# Altium integrated library Linear Technology Power Management PMIC Multifunction.IntLib: 360 symbols (part 23 of 42)
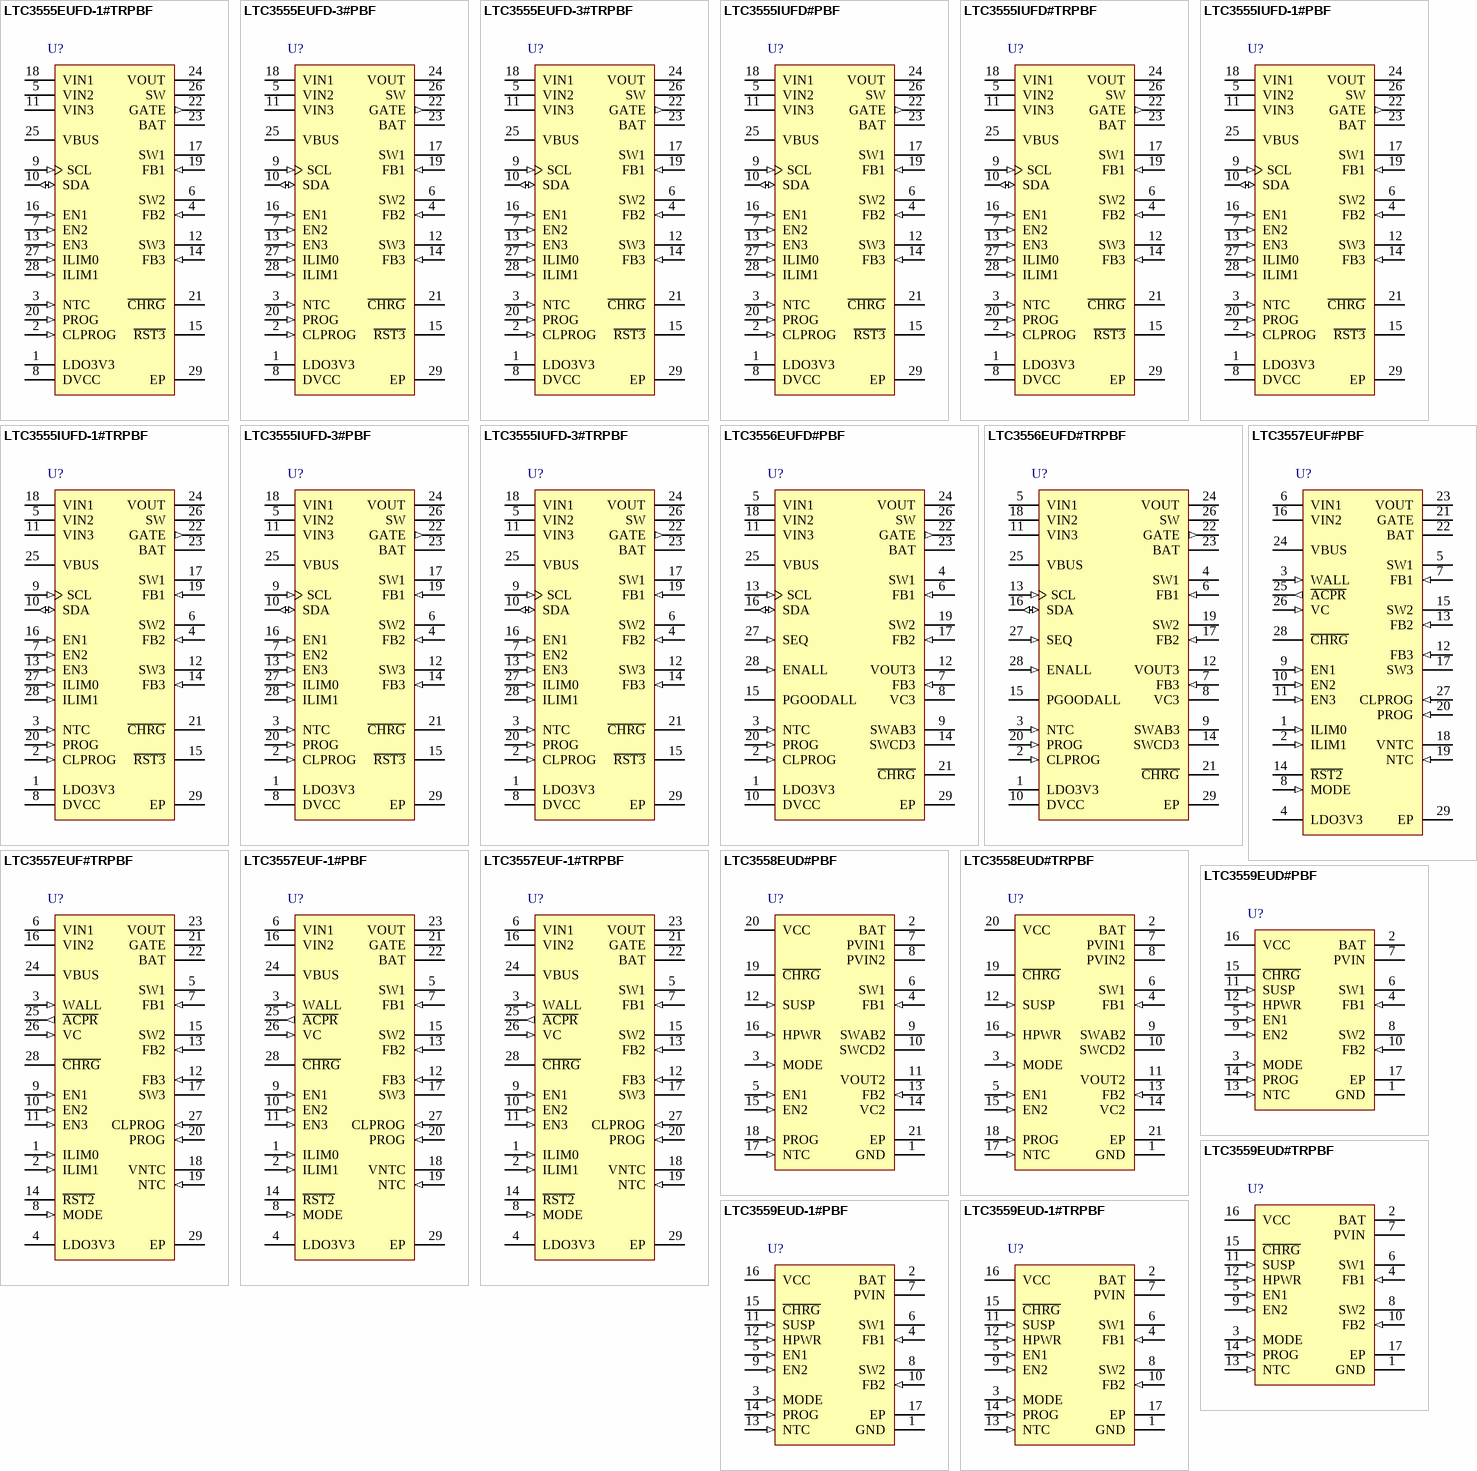
[diagram p40: symbols LTC3555EUFD-1#TRPBF to LTC3559EUD-1#TRPBF]

## LTC3557EUF#TRPBF
designator U?
USB Power Manager with Li-Ion Charger and Three Step Down Regulator, 2.7 to 5.5 V Vin, 28-pin QFN (UF-28), -40 to 85 degC, Pb-Free, Tape and Reel; Manufacturer: Linear Technology; PartNumber: LTC3557EUF#TRPBF; Number of Cells: 1; Number of Outputs: 4; Vin Max(V): 5.5; Vin Min(V): 2.7; DatasheetVersion: Rev. C; PackageVersion: Rev. A, 06/2010; PackageReference: UF-28; PackageDescription: 28-Pin Plastic QFN, Body 4 x 4 mm, Pitch 0.4 mm; Supplier 1: Digi-Key; Supplier Part Number 1: LTC3557EUF#TRPBF-ND; Packing: Tape and Reel; RoHS: TRUE; Mounting Technology: Surface Mount; ComponentLink1Description: Manufacturer URL; ComponentLink1URL: http://www.linear.com/; ComponentLink2Description: Datasheet; ComponentLink2URL: http://cds.linear.com/docs/en/datasheet/35571fc.pdf; ComponentLink3Description: Package Specification; ComponentLink3URL: http://cds.linear.com/docs/en/packaging/QFN_28_05-08-1721.pdf
footprint LT-UF-28_N (QFN, 28-Leads, Body 4.1x4.1mm, Pitch 0.4mm, Thermal Pad 2.64x2.64mm, IPC Medium Density)
footprint LT-UF-28_L (QFN, 28-Leads, Body 4.1x4.1mm, Pitch 0.4mm, Thermal Pad 2.64x2.64mm, IPC High Density)
footprint LT-UF-28_M (QFN, 28-Leads, Body 4.1x4.1mm, Pitch 0.4mm, Thermal Pad 2.64x2.64mm, IPC Low Density)
pins: 1 ILIM0 (in) "Input Current Control Pins. ILIM0 and ILIM1 control the input current limit. See Table 1. Both pins are pulled low by a weak current sink.", 2 ILIM1 (in) "Input Current Control Pins. ILIM0 and ILIM1 control the input current limit. See Table 1. Both pins are pulled low by a weak current sink.", 3 WALL (in) "Wall Adapter Present Input. Pulling this pin above 4.3V will disconnect the power path from VBUS to VOUT. The A\C\P\R\ pin will also be pulled low to indicate that a wall adapter has been detected.", 4 LDO3V3 (power) "Always On 3.3V LDO Output. The LDO3V3 pin provides a regulated, always-on 3.3V supply voltage. This pin gets its power from VOUT. It may be used for light loads such as a real-time clock or housekeeping microprocessor. A 1uF (See Datasheet)", 5 SW1 (power) "Power Transmission (Switch) Pin for Step-Down Switching Regulator 1.", 6 VIN1 (power) "Power Input for Step-Down Switching Regulator 1. This pin will generally be connected to VOUT.", 7 FB1 (in) "Feedback Input for Step-Down Switching Regulator 1. This pin servos to a fixed voltage of 0.8V when the control loop is complete.", 8 MODE (in) "Low Power Mode Enable. When this pin is pulled high, the three step-down switching regulators are set to low power Burst Mode operation.", 9 EN1 (in) "Logic Input Enables Step-Down Switching Regulator 1.", 10 EN2 (in) "Logic Input Enables Step-Down Switching Regulator 2.", 11 EN3 (in) "Logic Input Enables Step-Down Switching Regulator 3.", 12 FB3 (in) "Feedback Input for Step-Down Switching Regulator 3. This pin servos to a fixed voltage of 0.8V when the control loop is complete.", 13 FB2 (in) "Feedback Input for Step-Down Switching Regulator 2. This pin servos to a fixed voltage of 0.8V when the control loop is complete.", 14 ~{RST2} (oc) "This is an open-drain output which indicates that step-down switching regulator 2 has settled to its final value. It can be used as a power on reset for the primary microprocessor or to enable the other buck regulators for (See Datasheet)", 15 SW2 (power) "Power Transmission (Switch) Pin for Step-Down Switching Regulator 2.", 16 VIN2 (power) "Power Input for Step-Down Switching Regulators 2 and 3. This pin will generally be connected to VOUT.", 17 SW3 (power) "Power Transmission (Switch) Pin for Step-Down Switching Regulator 3.", 18 VNTC "Output Bias Voltage for NTC. A resistor from this pin to the NTC pin will bias the NTC thermistor.", 19 NTC (in) "The NTC pin connects to a battery’s thermistor to determine if the battery is too hot or too cold to charge. If the battery’s temperature is out of range, charging is paused until it drops back into range. A low dr(See Datasheet)", 20 PROG (in) "Charge Current Program and Charge Current Monitor Pin. Connecting a resistor from PROG to ground programs the charge current: ICHG(A)= 1000V RPROG If suffi cient input power is available in constant current mode, this pin (See Datasheet)", 21 GATE (hiz) "Ideal Diode Gate Connection. This pin controls the gate of an optional external P-channel MOSFET transistor used to supplement the internal ideal diode. The source of the P-channel MOSFET should be connected to VOUT and the (See Datasheet)", 22 BAT (power) "Single Cell Li-Ion Battery Pin. Depending on available power and load, a Li-Ion battery on BAT will either deliver system power to VOUT through the ideal diode or be charged from the battery charger.", 23 VOUT (power) "Output Voltage of the PowerPath Controller and Input Voltage of the Battery Charger. The majority of the portable product should be powered from VOUT. The LTC3557/LTC3557-1 will partition the available power between the (See Datasheet)", 24 VBUS (power) "USB Input Voltage. VBUS will usually be connected to the USB port of a computer or a DC output wall adapter. VBUS should be bypassed with a low impedance multilayer ceramic capacitor.", 25 ~{ACPR} (out) "Wall Adapter Present Output (Active Low). A low on this pin indicates that the wall adapter input comparator has had its input pulled above its input threshold (typically 4.3V). This pin can be used to drive the gate of an (See Datasheet)", 26 VC (in) "High Voltage Buck Regulator Control Pin. This pin can be used to drive the VC pin of an approved external high voltage buck switching regulator. An external P-channel MOSFET is required to provide power to VOUT with its gate (See Datasheet)", 27 CLPROG (in) "Input Current Program and Input Current Monitor Pin. A resistor from CLPROG to ground determines the upper limit of the current drawn from the VBUS pin (i.e., the input current limit). A precise fraction of the input (See Datasheet)", 28 ~{CHRG} (hiz) "Open-Drain Charge Status Output. The C\H\R\G\ pin indicates the status of the battery charger. Four possible states are represented by C\H\R\G\: charging, not charging (i.e., float charge current less than 1/10th programmed (See Datasheet)", 29 EP (power) "Ground. The exposed package pad is ground and must be soldered to the PC board for proper functionality and for maximum heat transfer."

## LTC3557EUF-1#PBF
designator U?
USB Power Manager with Li-Ion Charger and Three Step Down Regulator, 2.7 to 5.5 V Vin, 28-pin QFN (UF-28), -40 to 85 degC, Pb-Free; Manufacturer: Linear Technology; PartNumber: LTC3557EUF-1#PBF; Number of Cells: 1; Number of Outputs: 4; Vin Max(V): 5.5; Vin Min(V): 2.7; DatasheetVersion: Rev. C; PackageVersion: Rev. A, 06/2010; PackageReference: UF-28; PackageDescription: 28-Pin Plastic QFN, Body 4 x 4 mm, Pitch 0.4 mm; Supplier 1: Digi-Key; Supplier Part Number 1: LTC3557EUF-1#PBF-ND; RoHS: TRUE; Mounting Technology: Surface Mount; ComponentLink1Description: Manufacturer URL; ComponentLink1URL: http://www.linear.com/; ComponentLink2Description: Datasheet; ComponentLink2URL: http://cds.linear.com/docs/en/datasheet/35571fc.pdf; ComponentLink3Description: Package Specification; ComponentLink3URL: http://cds.linear.com/docs/en/packaging/QFN_28_05-08-1721.pdf
footprint LT-UF-28_N (QFN, 28-Leads, Body 4.1x4.1mm, Pitch 0.4mm, Thermal Pad 2.64x2.64mm, IPC Medium Density)
footprint LT-UF-28_L (QFN, 28-Leads, Body 4.1x4.1mm, Pitch 0.4mm, Thermal Pad 2.64x2.64mm, IPC High Density)
footprint LT-UF-28_M (QFN, 28-Leads, Body 4.1x4.1mm, Pitch 0.4mm, Thermal Pad 2.64x2.64mm, IPC Low Density)
pins: 1 ILIM0 (in) "Input Current Control Pins. ILIM0 and ILIM1 control the input current limit. See Table 1. Both pins are pulled low by a weak current sink.", 2 ILIM1 (in) "Input Current Control Pins. ILIM0 and ILIM1 control the input current limit. See Table 1. Both pins are pulled low by a weak current sink.", 3 WALL (in) "Wall Adapter Present Input. Pulling this pin above 4.3V will disconnect the power path from VBUS to VOUT. The A\C\P\R\ pin will also be pulled low to indicate that a wall adapter has been detected.", 4 LDO3V3 (power) "Always On 3.3V LDO Output. The LDO3V3 pin provides a regulated, always-on 3.3V supply voltage. This pin gets its power from VOUT. It may be used for light loads such as a real-time clock or housekeeping microprocessor. A 1uF (See Datasheet)", 5 SW1 (power) "Power Transmission (Switch) Pin for Step-Down Switching Regulator 1.", 6 VIN1 (power) "Power Input for Step-Down Switching Regulator 1. This pin will generally be connected to VOUT.", 7 FB1 (in) "Feedback Input for Step-Down Switching Regulator 1. This pin servos to a fixed voltage of 0.8V when the control loop is complete.", 8 MODE (in) "Low Power Mode Enable. When this pin is pulled high, the three step-down switching regulators are set to low power Burst Mode operation.", 9 EN1 (in) "Logic Input Enables Step-Down Switching Regulator 1.", 10 EN2 (in) "Logic Input Enables Step-Down Switching Regulator 2.", 11 EN3 (in) "Logic Input Enables Step-Down Switching Regulator 3.", 12 FB3 (in) "Feedback Input for Step-Down Switching Regulator 3. This pin servos to a fixed voltage of 0.8V when the control loop is complete.", 13 FB2 (in) "Feedback Input for Step-Down Switching Regulator 2. This pin servos to a fixed voltage of 0.8V when the control loop is complete.", 14 ~{RST2} (oc) "This is an open-drain output which indicates that step-down switching regulator 2 has settled to its final value. It can be used as a power on reset for the primary microprocessor or to enable the other buck regulators for (See Datasheet)", 15 SW2 (power) "Power Transmission (Switch) Pin for Step-Down Switching Regulator 2.", 16 VIN2 (power) "Power Input for Step-Down Switching Regulators 2 and 3. This pin will generally be connected to VOUT.", 17 SW3 (power) "Power Transmission (Switch) Pin for Step-Down Switching Regulator 3.", 18 VNTC "Output Bias Voltage for NTC. A resistor from this pin to the NTC pin will bias the NTC thermistor.", 19 NTC (in) "The NTC pin connects to a battery’s thermistor to determine if the battery is too hot or too cold to charge. If the battery’s temperature is out of range, charging is paused until it drops back into range. A low dr(See Datasheet)", 20 PROG (in) "Charge Current Program and Charge Current Monitor Pin. Connecting a resistor from PROG to ground programs the charge current: ICHG(A)= 1000V RPROG If suffi cient input power is available in constant current mode, this pin (See Datasheet)", 21 GATE (hiz) "Ideal Diode Gate Connection. This pin controls the gate of an optional external P-channel MOSFET transistor used to supplement the internal ideal diode. The source of the P-channel MOSFET should be connected to VOUT and the (See Datasheet)", 22 BAT (power) "Single Cell Li-Ion Battery Pin. Depending on available power and load, a Li-Ion battery on BAT will either deliver system power to VOUT through the ideal diode or be charged from the battery charger.", 23 VOUT (power) "Output Voltage of the PowerPath Controller and Input Voltage of the Battery Charger. The majority of the portable product should be powered from VOUT. The LTC3557/LTC3557-1 will partition the available power between the (See Datasheet)", 24 VBUS (power) "USB Input Voltage. VBUS will usually be connected to the USB port of a computer or a DC output wall adapter. VBUS should be bypassed with a low impedance multilayer ceramic capacitor.", 25 ~{ACPR} (out) "Wall Adapter Present Output (Active Low). A low on this pin indicates that the wall adapter input comparator has had its input pulled above its input threshold (typically 4.3V). This pin can be used to drive the gate of an (See Datasheet)", 26 VC (in) "High Voltage Buck Regulator Control Pin. This pin can be used to drive the VC pin of an approved external high voltage buck switching regulator. An external P-channel MOSFET is required to provide power to VOUT with its gate (See Datasheet)", 27 CLPROG (in) "Input Current Program and Input Current Monitor Pin. A resistor from CLPROG to ground determines the upper limit of the current drawn from the VBUS pin (i.e., the input current limit). A precise fraction of the input (See Datasheet)", 28 ~{CHRG} (hiz) "Open-Drain Charge Status Output. The C\H\R\G\ pin indicates the status of the battery charger. Four possible states are represented by C\H\R\G\: charging, not charging (i.e., float charge current less than 1/10th programmed (See Datasheet)", 29 EP (power) "Ground. The exposed package pad is ground and must be soldered to the PC board for proper functionality and for maximum heat transfer."

## LTC3557EUF-1#TRPBF
designator U?
USB Power Manager with Li-Ion Charger and Three Step Down Regulator, 2.7 to 5.5 V Vin, 28-pin QFN (UF-28), -40 to 85 degC, Pb-Free, Tape and Reel; Manufacturer: Linear Technology; PartNumber: LTC3557EUF-1#TRPBF; Number of Cells: 1; Number of Outputs: 4; Vin Max(V): 5.5; Vin Min(V): 2.7; DatasheetVersion: Rev. C; PackageVersion: Rev. A, 06/2010; PackageReference: UF-28; PackageDescription: 28-Pin Plastic QFN, Body 4 x 4 mm, Pitch 0.4 mm; Supplier 1: Digi-Key; Supplier Part Number 1: LTC3557EUF-1#TRPBF-ND; Packing: Tape and Reel; RoHS: TRUE; Mounting Technology: Surface Mount; ComponentLink1Description: Manufacturer URL; ComponentLink1URL: http://www.linear.com/; ComponentLink2Description: Datasheet; ComponentLink2URL: http://cds.linear.com/docs/en/datasheet/35571fc.pdf; ComponentLink3Description: Package Specification; ComponentLink3URL: http://cds.linear.com/docs/en/packaging/QFN_28_05-08-1721.pdf
footprint LT-UF-28_N (QFN, 28-Leads, Body 4.1x4.1mm, Pitch 0.4mm, Thermal Pad 2.64x2.64mm, IPC Medium Density)
footprint LT-UF-28_L (QFN, 28-Leads, Body 4.1x4.1mm, Pitch 0.4mm, Thermal Pad 2.64x2.64mm, IPC High Density)
footprint LT-UF-28_M (QFN, 28-Leads, Body 4.1x4.1mm, Pitch 0.4mm, Thermal Pad 2.64x2.64mm, IPC Low Density)
pins: 1 ILIM0 (in) "Input Current Control Pins. ILIM0 and ILIM1 control the input current limit. See Table 1. Both pins are pulled low by a weak current sink.", 2 ILIM1 (in) "Input Current Control Pins. ILIM0 and ILIM1 control the input current limit. See Table 1. Both pins are pulled low by a weak current sink.", 3 WALL (in) "Wall Adapter Present Input. Pulling this pin above 4.3V will disconnect the power path from VBUS to VOUT. The A\C\P\R\ pin will also be pulled low to indicate that a wall adapter has been detected.", 4 LDO3V3 (power) "Always On 3.3V LDO Output. The LDO3V3 pin provides a regulated, always-on 3.3V supply voltage. This pin gets its power from VOUT. It may be used for light loads such as a real-time clock or housekeeping microprocessor. A 1uF (See Datasheet)", 5 SW1 (power) "Power Transmission (Switch) Pin for Step-Down Switching Regulator 1.", 6 VIN1 (power) "Power Input for Step-Down Switching Regulator 1. This pin will generally be connected to VOUT.", 7 FB1 (in) "Feedback Input for Step-Down Switching Regulator 1. This pin servos to a fixed voltage of 0.8V when the control loop is complete.", 8 MODE (in) "Low Power Mode Enable. When this pin is pulled high, the three step-down switching regulators are set to low power Burst Mode operation.", 9 EN1 (in) "Logic Input Enables Step-Down Switching Regulator 1.", 10 EN2 (in) "Logic Input Enables Step-Down Switching Regulator 2.", 11 EN3 (in) "Logic Input Enables Step-Down Switching Regulator 3.", 12 FB3 (in) "Feedback Input for Step-Down Switching Regulator 3. This pin servos to a fixed voltage of 0.8V when the control loop is complete.", 13 FB2 (in) "Feedback Input for Step-Down Switching Regulator 2. This pin servos to a fixed voltage of 0.8V when the control loop is complete.", 14 ~{RST2} (oc) "This is an open-drain output which indicates that step-down switching regulator 2 has settled to its final value. It can be used as a power on reset for the primary microprocessor or to enable the other buck regulators for (See Datasheet)", 15 SW2 (power) "Power Transmission (Switch) Pin for Step-Down Switching Regulator 2.", 16 VIN2 (power) "Power Input for Step-Down Switching Regulators 2 and 3. This pin will generally be connected to VOUT.", 17 SW3 (power) "Power Transmission (Switch) Pin for Step-Down Switching Regulator 3.", 18 VNTC "Output Bias Voltage for NTC. A resistor from this pin to the NTC pin will bias the NTC thermistor.", 19 NTC (in) "The NTC pin connects to a battery’s thermistor to determine if the battery is too hot or too cold to charge. If the battery’s temperature is out of range, charging is paused until it drops back into range. A low dr(See Datasheet)", 20 PROG (in) "Charge Current Program and Charge Current Monitor Pin. Connecting a resistor from PROG to ground programs the charge current: ICHG(A)= 1000V RPROG If suffi cient input power is available in constant current mode, this pin (See Datasheet)", 21 GATE (hiz) "Ideal Diode Gate Connection. This pin controls the gate of an optional external P-channel MOSFET transistor used to supplement the internal ideal diode. The source of the P-channel MOSFET should be connected to VOUT and the (See Datasheet)", 22 BAT (power) "Single Cell Li-Ion Battery Pin. Depending on available power and load, a Li-Ion battery on BAT will either deliver system power to VOUT through the ideal diode or be charged from the battery charger.", 23 VOUT (power) "Output Voltage of the PowerPath Controller and Input Voltage of the Battery Charger. The majority of the portable product should be powered from VOUT. The LTC3557/LTC3557-1 will partition the available power between the (See Datasheet)", 24 VBUS (power) "USB Input Voltage. VBUS will usually be connected to the USB port of a computer or a DC output wall adapter. VBUS should be bypassed with a low impedance multilayer ceramic capacitor.", 25 ~{ACPR} (out) "Wall Adapter Present Output (Active Low). A low on this pin indicates that the wall adapter input comparator has had its input pulled above its input threshold (typically 4.3V). This pin can be used to drive the gate of an (See Datasheet)", 26 VC (in) "High Voltage Buck Regulator Control Pin. This pin can be used to drive the VC pin of an approved external high voltage buck switching regulator. An external P-channel MOSFET is required to provide power to VOUT with its gate (See Datasheet)", 27 CLPROG (in) "Input Current Program and Input Current Monitor Pin. A resistor from CLPROG to ground determines the upper limit of the current drawn from the VBUS pin (i.e., the input current limit). A precise fraction of the input (See Datasheet)", 28 ~{CHRG} (hiz) "Open-Drain Charge Status Output. The C\H\R\G\ pin indicates the status of the battery charger. Four possible states are represented by C\H\R\G\: charging, not charging (i.e., float charge current less than 1/10th programmed (See Datasheet)", 29 EP (power) "Ground. The exposed package pad is ground and must be soldered to the PC board for proper functionality and for maximum heat transfer."

## LTC3558EUD#PBF
designator U?
Linear USB Battery Charger with Buck and Buck-Boost Regulator, 4.3 to 5.5 V Vin, 20-pin QFN (UD-20), -40 to 85 degC, Pb-Free; Manufacturer: Linear Technology; PartNumber: LTC3558EUD#PBF; Number of Cells: 1; Number of Outputs: 2; Vin Max(V): 5.5; Vin Min(V): 4.3; PackageVersion: Rev. A, 06/2010; PackageReference: UD-20; PackageDescription: 20-Pin Plastic QFN, Body 3 x 3 mm, Pitch 0.4 mm; Supplier 1: Digi-Key; Supplier Part Number 1: LTC3558EUD#PBF-ND; Supplier 2: Newark; Supplier Part Number 2: 15N8258; RoHS: TRUE; Mounting Technology: Surface Mount; ComponentLink1Description: Manufacturer URL; ComponentLink1URL: http://www.linear.com/; ComponentLink2Description: Datasheet; ComponentLink2URL: http://cds.linear.com/docs/en/datasheet/3558.pdf; ComponentLink3Description: Package Specification; ComponentLink3URL: http://cds.linear.com/docs/en/packaging/QFN_20_05-08-1720.pdf
footprint LT-UD-20_N (QFN, 20-Leads, Body 3.1x3.1mm, Pitch 0.4mm, Thermal Pad 1.65x1.65mm, IPC Medium Density)
footprint LT-UD-20_L (QFN, 20-Leads, Body 3.1x3.1mm, Pitch 0.4mm, Thermal Pad 1.65x1.65mm, IPC High Density)
footprint LT-UD-20_M (QFN, 20-Leads, Body 3.1x3.1mm, Pitch 0.4mm, Thermal Pad 1.65x1.65mm, IPC Low Density)
pins: 1 GND (power) "Ground. Connect to Exposed Pad (Pin 21).", 2 BAT (power) "Charge Current Output. Provides charge current to the battery and regulates final float voltage to 4.2 V.", 3 MODE (in) "MODE Pin for Switching Regulators. When held high, both regulators operate in Burst Mode Operation. When held low, the buck regulator operates in pulse skip mode and the buck-boost regulator operates in PWM mode. This pin is (See Datasheet)", 4 FB1 (in) "Buck Regulator Feedback Voltage Pin. Receives feedback by a resistor divider connected across the output.", 5 EN1 (in) "Enable Input Pin for the Buck Regulator. This pin is a high impedance input; do not float. Active high.", 6 SW1 (power) "Buck Regulator Switching Node. External inductor connects to this node.", 7 PVIN1 (power) "Input Supply Pin for Buck Regulator. Connect to BAT and PVIN2. A single 10 uF input decoupling capacitor to GND is required.", 8 PVIN2 (power) "Input Supply Pin for Buck-Boost Regulator. Connect to BAT and PVIN1. A single 10 uF input decoupling capacitor to GND is required.", 9 SWAB2 "Switch Node for Buck-Boost Regulator Connected to the Internal Power Switches A and B. External inductor connects between this node and SWCD2.", 10 SWCD2 "Switch Node for Buck-Boost Regulator Connected to the Internal Power Switches C and D. External inductor connects between this node and SWAB2.", 11 VOUT2 (power) "Regulated Output Voltage for Buck-Boost Regulator.", 12 SUSP (in) "Suspend Battery Charging Operation. A voltage greater than 1.2 V on this pin puts the battery charger in suspend mode, disables the charger and resets the termination timer. A weak pull-down current is internally applied to (See Datasheet)", 13 FB2 (in) "Buck-Boost Regulator Feedback Voltage Pin. Receives feedback by a resistor divider connected across the output.", 14 VC2 "Output of the Error Amplifier and Voltage Compensation Node for the Buck-Boost Regulator. External Type I or Type III compensation (to FB2) connects to this pin.", 15 EN2 (in) "Enable Input Pin for the Buck-Boost Regulator. This pin is a high impedance input; do not float. Active high.", 16 HPWR (in) "High Current Battery Charging Enabled. A voltage greater than 1.2 V at this pin programs the BAT pin current at 100% of the maximum programmed charge current. A voltage less than 0.4 V sets the BAT pin current to 20% of the (See Datasheet)", 17 NTC (in) "Input to the NTC Thermistor Monitoring Circuit. The NTC pin connects to a negative temperature coefficient thermistor which is typically co-packaged with the battery pack to determine if the battery is too hot or too cold to (See Datasheet)", 18 PROG (in) "Charge Current Program and Charge Current Monitor Pin. Charge current is programmed by connecting a resistor from PROG to ground. When charging in constant current mode, the PROG pin servos to 1 V if the HPWR pin is pulled (See Datasheet)", 19 ~{CHRG} (hiz) "Open-Drain Charge Status Output. The C\H\R\G pin indicates the status of the battery charger. Four possible states are represented by C\H\R\G charging, not charging (i.e., the charge current is less than one-tenth of the (See Datasheet)", 20 VCC (power) "Battery Charger Input. A 1 uF decoupling capacitor to GND is recommended.", 21 EP (power) "Ground. The Exposed Pad must be soldered to PCB ground to provide electrical contact and rated thermal performance."

## LTC3558EUD#TRPBF
designator U?
Linear USB Battery Charger with Buck and Buck-Boost Regulator, 4.3 to 5.5 V Vin, 20-pin QFN (UD-20), -40 to 85 degC, Pb-Free, Tape and Reel; Manufacturer: Linear Technology; PartNumber: LTC3558EUD#TRPBF; Number of Cells: 1; Number of Outputs: 2; Vin Max(V): 5.5; Vin Min(V): 4.3; PackageVersion: Rev. A, 06/2010; PackageReference: UD-20; PackageDescription: 20-Pin Plastic QFN, Body 3 x 3 mm, Pitch 0.4 mm; Supplier 1: Digi-Key; Supplier Part Number 1: LTC3558EUD#TRPBF-ND; Supplier 2: Newark; Supplier Part Number 2: 15N8259; Packing: Tape and Reel; RoHS: TRUE; Mounting Technology: Surface Mount; ComponentLink1Description: Manufacturer URL; ComponentLink1URL: http://www.linear.com/; ComponentLink2Description: Datasheet; ComponentLink2URL: http://cds.linear.com/docs/en/datasheet/3558.pdf; ComponentLink3Description: Package Specification; ComponentLink3URL: http://cds.linear.com/docs/en/packaging/QFN_20_05-08-1720.pdf
footprint LT-UD-20_N (QFN, 20-Leads, Body 3.1x3.1mm, Pitch 0.4mm, Thermal Pad 1.65x1.65mm, IPC Medium Density)
footprint LT-UD-20_L (QFN, 20-Leads, Body 3.1x3.1mm, Pitch 0.4mm, Thermal Pad 1.65x1.65mm, IPC High Density)
footprint LT-UD-20_M (QFN, 20-Leads, Body 3.1x3.1mm, Pitch 0.4mm, Thermal Pad 1.65x1.65mm, IPC Low Density)
pins: 1 GND (power) "Ground. Connect to Exposed Pad (Pin 21).", 2 BAT (power) "Charge Current Output. Provides charge current to the battery and regulates final float voltage to 4.2 V.", 3 MODE (in) "MODE Pin for Switching Regulators. When held high, both regulators operate in Burst Mode Operation. When held low, the buck regulator operates in pulse skip mode and the buck-boost regulator operates in PWM mode. This pin is (See Datasheet)", 4 FB1 (in) "Buck Regulator Feedback Voltage Pin. Receives feedback by a resistor divider connected across the output.", 5 EN1 (in) "Enable Input Pin for the Buck Regulator. This pin is a high impedance input; do not float. Active high.", 6 SW1 (power) "Buck Regulator Switching Node. External inductor connects to this node.", 7 PVIN1 (power) "Input Supply Pin for Buck Regulator. Connect to BAT and PVIN2. A single 10 uF input decoupling capacitor to GND is required.", 8 PVIN2 (power) "Input Supply Pin for Buck-Boost Regulator. Connect to BAT and PVIN1. A single 10 uF input decoupling capacitor to GND is required.", 9 SWAB2 "Switch Node for Buck-Boost Regulator Connected to the Internal Power Switches A and B. External inductor connects between this node and SWCD2.", 10 SWCD2 "Switch Node for Buck-Boost Regulator Connected to the Internal Power Switches C and D. External inductor connects between this node and SWAB2.", 11 VOUT2 (power) "Regulated Output Voltage for Buck-Boost Regulator.", 12 SUSP (in) "Suspend Battery Charging Operation. A voltage greater than 1.2 V on this pin puts the battery charger in suspend mode, disables the charger and resets the termination timer. A weak pull-down current is internally applied to (See Datasheet)", 13 FB2 (in) "Buck-Boost Regulator Feedback Voltage Pin. Receives feedback by a resistor divider connected across the output.", 14 VC2 "Output of the Error Amplifier and Voltage Compensation Node for the Buck-Boost Regulator. External Type I or Type III compensation (to FB2) connects to this pin.", 15 EN2 (in) "Enable Input Pin for the Buck-Boost Regulator. This pin is a high impedance input; do not float. Active high.", 16 HPWR (in) "High Current Battery Charging Enabled. A voltage greater than 1.2 V at this pin programs the BAT pin current at 100% of the maximum programmed charge current. A voltage less than 0.4 V sets the BAT pin current to 20% of the (See Datasheet)", 17 NTC (in) "Input to the NTC Thermistor Monitoring Circuit. The NTC pin connects to a negative temperature coefficient thermistor which is typically co-packaged with the battery pack to determine if the battery is too hot or too cold to (See Datasheet)", 18 PROG (in) "Charge Current Program and Charge Current Monitor Pin. Charge current is programmed by connecting a resistor from PROG to ground. When charging in constant current mode, the PROG pin servos to 1 V if the HPWR pin is pulled (See Datasheet)", 19 ~{CHRG} (hiz) "Open-Drain Charge Status Output. The C\H\R\G pin indicates the status of the battery charger. Four possible states are represented by C\H\R\G charging, not charging (i.e., the charge current is less than one-tenth of the (See Datasheet)", 20 VCC (power) "Battery Charger Input. A 1 uF decoupling capacitor to GND is recommended.", 21 EP (power) "Ground. The Exposed Pad must be soldered to PCB ground to provide electrical contact and rated thermal performance."

## LTC3559EUD#PBF
designator U?
Linear USB Battery Charger with Dual Buck Regulator, 4.3 to 5.5 V Vin, 16-pin QFN (UD-16), -40 to 85 degC, Pb-Free; Manufacturer: Linear Technology; PartNumber: LTC3559EUD#PBF; Number of Cells: 1; Number of Outputs: 2; Vin Max(V): 5.5; Vin Min(V): 4.3; DatasheetVersion: Rev. B; PackageVersion: Jun-10; PackageReference: UD-16; PackageDescription: 16-Pin Plastic QFN, Body 3 x 3 mm, Pitch 0.5 mm; Supplier 1: Digi-Key; Supplier Part Number 1: LTC3559EUD#PBF-ND; Supplier 2: Newark; Supplier Part Number 2: 56M8018; RoHS: TRUE; Mounting Technology: Surface Mount; Code_JEDEC: MO-220; ComponentLink1Description: Manufacturer URL; ComponentLink1URL: http://www.linear.com/; ComponentLink2Description: Datasheet; ComponentLink2URL: http://cds.linear.com/docs/en/datasheet/3559fb.pdf; ComponentLink3Description: Package Specification; ComponentLink3URL: http://cds.linear.com/docs/en/packaging/QFN_16_05-08-1691.pdf
footprint LT-UD-16_N (QFN, 16-Leads, Body 3x3mm, Pitch 0.5mm, Thermal Pad 1.45x1.45mm, IPC Medium Density)
footprint LT-UD-16_L (QFN, 16-Leads, Body 3x3mm, Pitch 0.5mm, Thermal Pad 1.45x1.45mm, IPC High Density)
footprint LT-UD-16_M (QFN, 16-Leads, Body 3x3mm, Pitch 0.5mm, Thermal Pad 1.45x1.45mm, IPC Low Density)
pins: 1 GND (power) "Ground, Connect to Exposed Pad (Pin 17).", 2 BAT (power) "Charge Current Output. Provides charge current to the battery and regulates final float voltage to 4.2 V (LTC3559) or 4.1 V (LTC3559-1).", 3 MODE (in) "MODE Pin for Buck Regulators. When held high, both regulators are in Burst Mode operation. When held low both regulators operate in pulse skip mode. This pin is a high impedance input; do not float.", 4 FB1 (in) "Buck 1 Feedback Voltage Pin. Receives feedback by a resistor divider connected across the output", 5 EN1 (in) "Enable Input Pin for Buck 1. This pin is a high impedance input; do not float. Active high.", 6 SW1 (power) "Buck 1 Switching Node. External inductor connects to this node.", 7 PVIN (power) "Input Supply Pin for Buck Regulators. Connect to BAT. A 2.2 uF decoupling capacitor to GND is recommended.", 8 SW2 (power) "Buck 2 Switching Node. External inductor connects to this node.", 9 EN2 (in) "Enable Input Pin for Buck 2. This pin is a high impedance input; do not float. Active high.", 10 FB2 (in) "Buck 2 Feedback Voltage Pin. Receives feedback by a resistor divider connected across the output", 11 SUSP (in) "Suspend Battery Charging Operation. A voltage greater than 1.2 V on this pin puts the battery charger into suspend mode, disables the charger and resets the termination timer. A weak pull-down current is internally applied (See Datasheet)", 12 HPWR (in) "High Current Battery Charging Enabled. A voltage greater than 1.2 V at this pin programs the BAT pin current at 100% of the maximum programmed charge current. A voltage less than 0.4V sets the BAT pin current to 20% of the (See Datasheet)", 13 NTC (in) "Input to the NTC Thermistor Monitoring Circuit. The NTC pin connects to a negative temperature coefficient thermistor which is typically co-packaged with the battery pack to determine if the battery is too hot or too cold to (See Datasheet)", 14 PROG (in) "Charge Current Program and Charge Current Monitor Pin. Charge current is programmed by connecting a resistor from PROG to ground. When charging in constant current mode, the PROG pin servos to 1 V if the HPWR pin is pulled (See Datasheet)", 15 ~{CHRG} (hiz) "Open-Drain Charge Status Output. The C\H\R\G\ pin indicates the status of the battery charger. Four possible states are represented by C\H\R\G\: charging, not charging (i.e., the charge current is less than 1/10th of the (See Datasheet)", 16 VCC (power) "Battery Charger Input. A 1 uF decoupling capacitor to GND is recommended.", 17 EP (power) "Ground. The Exposed Pad must be soldered to PCB ground to provide electrical contact and rated thermal performance."

## LTC3559EUD#TRPBF
designator U?
Linear USB Battery Charger with Dual Buck Regulator, 4.3 to 5.5 V Vin, 16-pin QFN (UD-16), -40 to 85 degC, Pb-Free, Tape and Reel; Manufacturer: Linear Technology; PartNumber: LTC3559EUD#TRPBF; Number of Cells: 1; Number of Outputs: 2; Vin Max(V): 5.5; Vin Min(V): 4.3; DatasheetVersion: Rev. B; PackageVersion: Jun-10; PackageReference: UD-16; PackageDescription: 16-Pin Plastic QFN, Body 3 x 3 mm, Pitch 0.5 mm; Supplier 1: Digi-Key; Supplier Part Number 1: LTC3559EUD#TRPBF-ND; Packing: Tape and Reel; RoHS: TRUE; Mounting Technology: Surface Mount; Code_JEDEC: MO-220; ComponentLink1Description: Manufacturer URL; ComponentLink1URL: http://www.linear.com/; ComponentLink2Description: Datasheet; ComponentLink2URL: http://cds.linear.com/docs/en/datasheet/3559fb.pdf; ComponentLink3Description: Package Specification; ComponentLink3URL: http://cds.linear.com/docs/en/packaging/QFN_16_05-08-1691.pdf
footprint LT-UD-16_N (QFN, 16-Leads, Body 3x3mm, Pitch 0.5mm, Thermal Pad 1.45x1.45mm, IPC Medium Density)
footprint LT-UD-16_L (QFN, 16-Leads, Body 3x3mm, Pitch 0.5mm, Thermal Pad 1.45x1.45mm, IPC High Density)
footprint LT-UD-16_M (QFN, 16-Leads, Body 3x3mm, Pitch 0.5mm, Thermal Pad 1.45x1.45mm, IPC Low Density)
pins: 1 GND (power) "Ground, Connect to Exposed Pad (Pin 17).", 2 BAT (power) "Charge Current Output. Provides charge current to the battery and regulates final float voltage to 4.2 V (LTC3559) or 4.1 V (LTC3559-1).", 3 MODE (in) "MODE Pin for Buck Regulators. When held high, both regulators are in Burst Mode operation. When held low both regulators operate in pulse skip mode. This pin is a high impedance input; do not float.", 4 FB1 (in) "Buck 1 Feedback Voltage Pin. Receives feedback by a resistor divider connected across the output", 5 EN1 (in) "Enable Input Pin for Buck 1. This pin is a high impedance input; do not float. Active high.", 6 SW1 (power) "Buck 1 Switching Node. External inductor connects to this node.", 7 PVIN (power) "Input Supply Pin for Buck Regulators. Connect to BAT. A 2.2 uF decoupling capacitor to GND is recommended.", 8 SW2 (power) "Buck 2 Switching Node. External inductor connects to this node.", 9 EN2 (in) "Enable Input Pin for Buck 2. This pin is a high impedance input; do not float. Active high.", 10 FB2 (in) "Buck 2 Feedback Voltage Pin. Receives feedback by a resistor divider connected across the output", 11 SUSP (in) "Suspend Battery Charging Operation. A voltage greater than 1.2 V on this pin puts the battery charger into suspend mode, disables the charger and resets the termination timer. A weak pull-down current is internally applied (See Datasheet)", 12 HPWR (in) "High Current Battery Charging Enabled. A voltage greater than 1.2 V at this pin programs the BAT pin current at 100% of the maximum programmed charge current. A voltage less than 0.4V sets the BAT pin current to 20% of the (See Datasheet)", 13 NTC (in) "Input to the NTC Thermistor Monitoring Circuit. The NTC pin connects to a negative temperature coefficient thermistor which is typically co-packaged with the battery pack to determine if the battery is too hot or too cold to (See Datasheet)", 14 PROG (in) "Charge Current Program and Charge Current Monitor Pin. Charge current is programmed by connecting a resistor from PROG to ground. When charging in constant current mode, the PROG pin servos to 1 V if the HPWR pin is pulled (See Datasheet)", 15 ~{CHRG} (hiz) "Open-Drain Charge Status Output. The C\H\R\G\ pin indicates the status of the battery charger. Four possible states are represented by C\H\R\G\: charging, not charging (i.e., the charge current is less than 1/10th of the (See Datasheet)", 16 VCC (power) "Battery Charger Input. A 1 uF decoupling capacitor to GND is recommended.", 17 EP (power) "Ground. The Exposed Pad must be soldered to PCB ground to provide electrical contact and rated thermal performance."

## LTC3559EUD-1#PBF
designator U?
Linear USB Battery Charger with Dual Buck Regulator, 4.3 to 5.5 V Vin, 16-pin QFN (UD-16), -40 to 85 degC, Pb-Free; Manufacturer: Linear Technology; PartNumber: LTC3559EUD-1#PBF; Number of Cells: 1; Number of Outputs: 2; Vin Max(V): 5.5; Vin Min(V): 4.3; DatasheetVersion: Rev. B; PackageVersion: Jun-10; PackageReference: UD-16; PackageDescription: 16-Pin Plastic QFN, Body 3 x 3 mm, Pitch 0.5 mm; Supplier 1: Digi-Key; Supplier Part Number 1: LTC3559EUD-1#PBF-ND; Supplier 2: Newark; Supplier Part Number 2: 01N6402; RoHS: TRUE; Mounting Technology: Surface Mount; Code_JEDEC: MO-220; ComponentLink1Description: Manufacturer URL; ComponentLink1URL: http://www.linear.com/; ComponentLink2Description: Datasheet; ComponentLink2URL: http://cds.linear.com/docs/en/datasheet/3559fb.pdf; ComponentLink3Description: Package Specification; ComponentLink3URL: http://cds.linear.com/docs/en/packaging/QFN_16_05-08-1691.pdf
footprint LT-UD-16_N (QFN, 16-Leads, Body 3x3mm, Pitch 0.5mm, Thermal Pad 1.45x1.45mm, IPC Medium Density)
footprint LT-UD-16_L (QFN, 16-Leads, Body 3x3mm, Pitch 0.5mm, Thermal Pad 1.45x1.45mm, IPC High Density)
footprint LT-UD-16_M (QFN, 16-Leads, Body 3x3mm, Pitch 0.5mm, Thermal Pad 1.45x1.45mm, IPC Low Density)
pins: 1 GND (power) "Ground, Connect to Exposed Pad (Pin 17).", 2 BAT (power) "Charge Current Output. Provides charge current to the battery and regulates final float voltage to 4.2 V (LTC3559) or 4.1 V (LTC3559-1).", 3 MODE (in) "MODE Pin for Buck Regulators. When held high, both regulators are in Burst Mode operation. When held low both regulators operate in pulse skip mode. This pin is a high impedance input; do not float.", 4 FB1 (in) "Buck 1 Feedback Voltage Pin. Receives feedback by a resistor divider connected across the output", 5 EN1 (in) "Enable Input Pin for Buck 1. This pin is a high impedance input; do not float. Active high.", 6 SW1 (power) "Buck 1 Switching Node. External inductor connects to this node.", 7 PVIN (power) "Input Supply Pin for Buck Regulators. Connect to BAT. A 2.2 uF decoupling capacitor to GND is recommended.", 8 SW2 (power) "Buck 2 Switching Node. External inductor connects to this node.", 9 EN2 (in) "Enable Input Pin for Buck 2. This pin is a high impedance input; do not float. Active high.", 10 FB2 (in) "Buck 2 Feedback Voltage Pin. Receives feedback by a resistor divider connected across the output", 11 SUSP (in) "Suspend Battery Charging Operation. A voltage greater than 1.2 V on this pin puts the battery charger into suspend mode, disables the charger and resets the termination timer. A weak pull-down current is internally applied (See Datasheet)", 12 HPWR (in) "High Current Battery Charging Enabled. A voltage greater than 1.2 V at this pin programs the BAT pin current at 100% of the maximum programmed charge current. A voltage less than 0.4V sets the BAT pin current to 20% of the (See Datasheet)", 13 NTC (in) "Input to the NTC Thermistor Monitoring Circuit. The NTC pin connects to a negative temperature coefficient thermistor which is typically co-packaged with the battery pack to determine if the battery is too hot or too cold to (See Datasheet)", 14 PROG (in) "Charge Current Program and Charge Current Monitor Pin. Charge current is programmed by connecting a resistor from PROG to ground. When charging in constant current mode, the PROG pin servos to 1 V if the HPWR pin is pulled (See Datasheet)", 15 ~{CHRG} (hiz) "Open-Drain Charge Status Output. The C\H\R\G\ pin indicates the status of the battery charger. Four possible states are represented by C\H\R\G\: charging, not charging (i.e., the charge current is less than 1/10th of the (See Datasheet)", 16 VCC (power) "Battery Charger Input. A 1 uF decoupling capacitor to GND is recommended.", 17 EP (power) "Ground. The Exposed Pad must be soldered to PCB ground to provide electrical contact and rated thermal performance."

## LTC3559EUD-1#TRPBF
designator U?
Linear USB Battery Charger with Dual Buck Regulator, 4.3 to 5.5 V Vin, 16-pin QFN (UD-16), -40 to 85 degC, Pb-Free, Tape and Reel; Manufacturer: Linear Technology; PartNumber: LTC3559EUD-1#TRPBF; Number of Cells: 1; Number of Outputs: 2; Vin Max(V): 5.5; Vin Min(V): 4.3; DatasheetVersion: Rev. B; PackageVersion: Jun-10; PackageReference: UD-16; PackageDescription: 16-Pin Plastic QFN, Body 3 x 3 mm, Pitch 0.5 mm; Supplier 1: Digi-Key; Supplier Part Number 1: LTC3559EUD-1#TRPBF-ND; Supplier 2: Newark; Supplier Part Number 2: 01N6403; Packing: Tape and Reel; RoHS: TRUE; Mounting Technology: Surface Mount; Code_JEDEC: MO-220; ComponentLink1Description: Manufacturer URL; ComponentLink1URL: http://www.linear.com/; ComponentLink2Description: Datasheet; ComponentLink2URL: http://cds.linear.com/docs/en/datasheet/3559fb.pdf; ComponentLink3Description: Package Specification; ComponentLink3URL: http://cds.linear.com/docs/en/packaging/QFN_16_05-08-1691.pdf
footprint LT-UD-16_N (QFN, 16-Leads, Body 3x3mm, Pitch 0.5mm, Thermal Pad 1.45x1.45mm, IPC Medium Density)
footprint LT-UD-16_L (QFN, 16-Leads, Body 3x3mm, Pitch 0.5mm, Thermal Pad 1.45x1.45mm, IPC High Density)
footprint LT-UD-16_M (QFN, 16-Leads, Body 3x3mm, Pitch 0.5mm, Thermal Pad 1.45x1.45mm, IPC Low Density)
pins: 1 GND (power) "Ground, Connect to Exposed Pad (Pin 17).", 2 BAT (power) "Charge Current Output. Provides charge current to the battery and regulates final float voltage to 4.2 V (LTC3559) or 4.1 V (LTC3559-1).", 3 MODE (in) "MODE Pin for Buck Regulators. When held high, both regulators are in Burst Mode operation. When held low both regulators operate in pulse skip mode. This pin is a high impedance input; do not float.", 4 FB1 (in) "Buck 1 Feedback Voltage Pin. Receives feedback by a resistor divider connected across the output", 5 EN1 (in) "Enable Input Pin for Buck 1. This pin is a high impedance input; do not float. Active high.", 6 SW1 (power) "Buck 1 Switching Node. External inductor connects to this node.", 7 PVIN (power) "Input Supply Pin for Buck Regulators. Connect to BAT. A 2.2 uF decoupling capacitor to GND is recommended.", 8 SW2 (power) "Buck 2 Switching Node. External inductor connects to this node.", 9 EN2 (in) "Enable Input Pin for Buck 2. This pin is a high impedance input; do not float. Active high.", 10 FB2 (in) "Buck 2 Feedback Voltage Pin. Receives feedback by a resistor divider connected across the output", 11 SUSP (in) "Suspend Battery Charging Operation. A voltage greater than 1.2 V on this pin puts the battery charger into suspend mode, disables the charger and resets the termination timer. A weak pull-down current is internally applied (See Datasheet)", 12 HPWR (in) "High Current Battery Charging Enabled. A voltage greater than 1.2 V at this pin programs the BAT pin current at 100% of the maximum programmed charge current. A voltage less than 0.4V sets the BAT pin current to 20% of the (See Datasheet)", 13 NTC (in) "Input to the NTC Thermistor Monitoring Circuit. The NTC pin connects to a negative temperature coefficient thermistor which is typically co-packaged with the battery pack to determine if the battery is too hot or too cold to (See Datasheet)", 14 PROG (in) "Charge Current Program and Charge Current Monitor Pin. Charge current is programmed by connecting a resistor from PROG to ground. When charging in constant current mode, the PROG pin servos to 1 V if the HPWR pin is pulled (See Datasheet)", 15 ~{CHRG} (hiz) "Open-Drain Charge Status Output. The C\H\R\G\ pin indicates the status of the battery charger. Four possible states are represented by C\H\R\G\: charging, not charging (i.e., the charge current is less than 1/10th of the (See Datasheet)", 16 VCC (power) "Battery Charger Input. A 1 uF decoupling capacitor to GND is recommended.", 17 EP (power) "Ground. The Exposed Pad must be soldered to PCB ground to provide electrical contact and rated thermal performance."

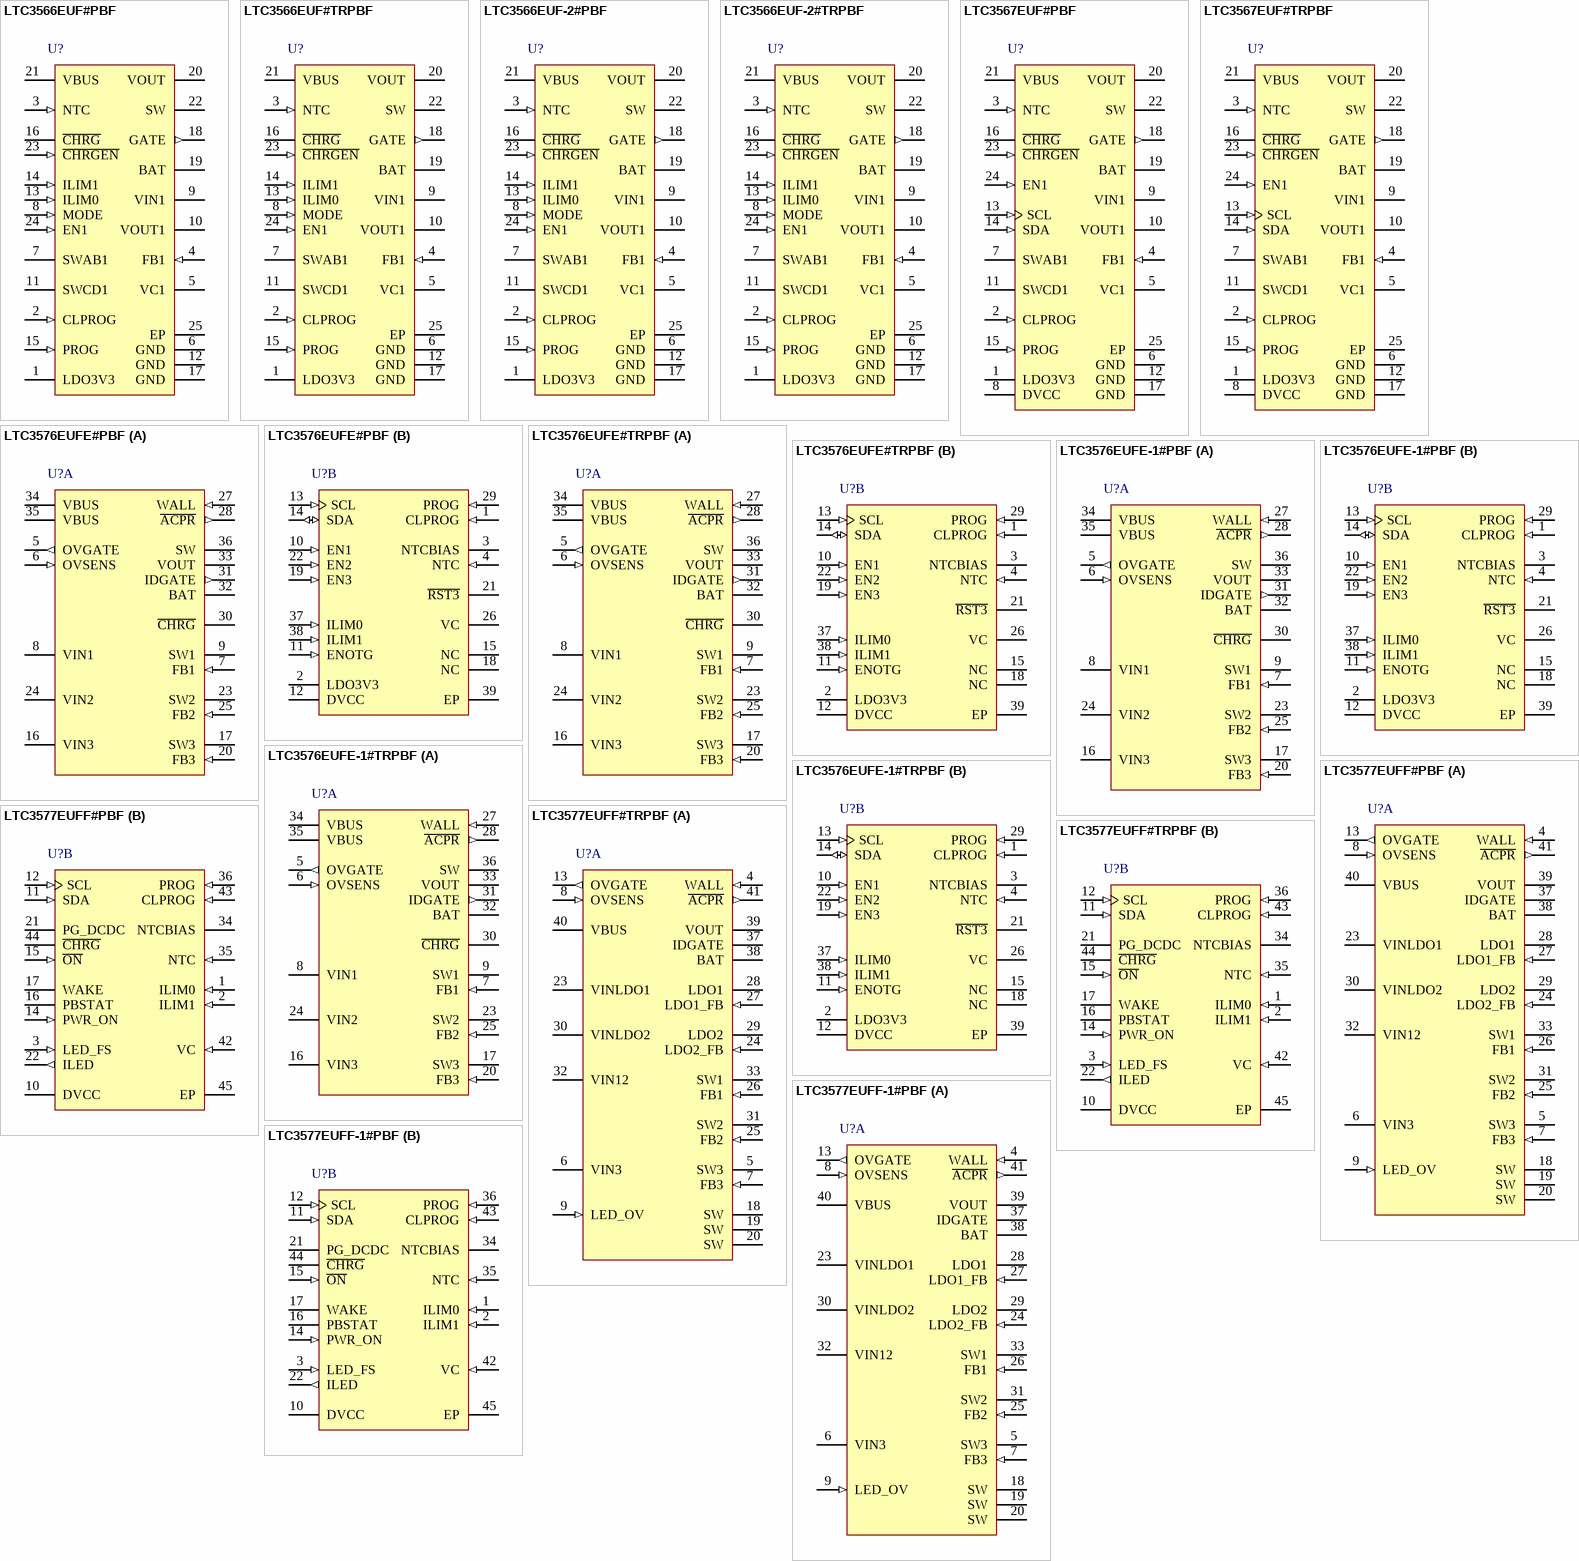
[diagram p10: symbols LTC3566EUF#PBF to LTC3577EUFF-1#PBF]

## LTC3566EUF#PBF
designator U?
High Efficiency USB Power Manager Plus 1 A Buck-Boost Converter, 4.35 to 5.5 V Vin, 24-pin QFN (UF-24), -40 to 85 degC, Pb-Free; Manufacturer: Linear Technology; PartNumber: LTC3566EUF#PBF; Number of Cells: 1; Vin Max(V): 5.5; Vin Min(V): 4.35; DatasheetVersion: Rev. B; PackageVersion: Rev. B, 02/2012; PackageReference: UF24; PackageDescription: 24-Pin Plastic QFN, Body 4 x 4 mm, Pitch 0.5 mm; Supplier 1: Digi-Key; Supplier Part Number 1: LTC3566EUF#PBF-ND; Supplier 2: Farnell; Supplier Part Number 2: 1628881; Supplier 3: Newark; Supplier Part Number 3: 95M6504; Number of Outputs: 1; RoHS: TRUE; Mounting Technology: Surface Mount; Code_JEDEC: MO-220; ComponentLink1Description: Manufacturer URL; ComponentLink1URL: http://www.linear.com/; ComponentLink2Description: Datasheet; ComponentLink2URL: http://cds.linear.com/docs/en/datasheet/3566fb.pdf; ComponentLink3Description: Package Specification; ComponentLink3URL: http://cds.linear.com/docs/en/packaging/%28UF24%29%20QFN%2005-08-1697%20Rev%20B.pdf
footprint LT-UF-24_N (QFN, 24-Leads, Body 4.1x4.1mm, Pitch 0.5mm, Thermal Pad 2.45x2.45mm, IPC Medium Density)
footprint LT-UF-24_L (QFN, 24-Leads, Body 4.1x4.1mm, Pitch 0.5mm, Thermal Pad 2.45x2.45mm, IPC High Density)
footprint LT-UF-24_M (QFN, 24-Leads, Body 4.1x4.1mm, Pitch 0.5mm, Thermal Pad 2.45x2.45mm, IPC Low Density)
pins: 1 LDO3V3 (power) "3.3V LDO Output Pin. This pin provides a regulated, always-on, 3.3V supply voltage. LDO3V3 gets its power from VOUT. It may be used for light loads such as a watchdog microprocessor or real time clock. A 1uF capacitor is (See Datasheet)", 2 CLPROG (in) "USB Current Limit Program and Monitor Pin. A resistor from CLPROG to ground determines the upper limit of the current drawn from the VBUS pin. A fraction of the VBUS current is sent to the CLPROG pin when the synchronous (See Datasheet)", 3 NTC (in) "Input to the Thermistor Monitoring Circuits. The NTC pin connects to a battery’s thermistor to determine if the battery is too hot or too cold to charge. If the battery’s temperature is out of range, charging is pau(See Datasheet)", 4 FB1 (in) "Feedback Input for the (Buck-Boost) Switching Regulator. When the regulator’s control loop is complete, this pin servos to a fixed voltage of 0.8V.", 5 VC1 "Output of the Error Amplifier and Voltage Compensation Node for the (Buck-Boost) Switching Regulator. External Type I or Type III compensation (to FB1) connects to this pin. See Applications Information section for selecting (See Datasheet)", 6 GND (power) "Power GND pins for the buck-boost.", 7 SWAB1 "Switch Node for the (Buck-Boost) Switching Regulator. Connected to internal power switches A and B. External inductor connects between this node and SWCD1.", 8 MODE (in) "Logic Input. Mode enables Burst Mode functionality for the buck-boost switching regulator when pin is set high. Has a 1.6uA internal pull-down current source.", 9 VIN1 (power) "Power Input for the (Buck-Boost) Switching Regulator. This pin will generally be connected to VOUT (Pin 20). A 1uF(min) MLCC capacitor is recommended on this pin.", 10 VOUT1 (power) "Regulated Output Voltage for the (Buck-Boost) Switching Regulator.", 11 SWCD1 "Switch Node for the (Buck-Boost) Switching Regulator. Connected to internal power switches C and D. External inductor connects between this node and SWAB1.", 12 GND (power) "Power GND pins for the buck-boost.", 13 ILIM0 (in) "Logic Input. Control pin for ILIM0 bit of the current limit of the PowerPath switching regulator. See Table 2. Active high. Has a 1.6uA internal pull-down current source.", 14 ILIM1 (in) "Logic Input. Control pin for ILIM1 bit of the current limit of the PowerPath switching regulator. See Table 2. Active high. Has a 1.6uA internal pull-down current source.", 15 PROG (in) "Charge Current Program and Charge Current Monitor Pin. Connecting a resistor from PROG to ground programs the charge current. If sufficient input power is available in constant-current mode, this pin servos to 1V. The (See Datasheet)", 16 ~{CHRG} (hiz) "Open-Drain Charge Status Output. The C\H\R\G\ pin indicates the status of the battery charger. Four possible states are represented by C\H\R\G\: charging, not charging, unresponsive battery and battery temperature out of (See Datasheet)", 17 GND (power) "GND pin for USB Power Manager.", 18 GATE (out) "Analog Output. This pin controls the gate of an optional external P-channel MOSFET transistor used to supplement the ideal diode between VOUT and BAT. The external ideal diode operates in parallel with the internal ideal (See Datasheet)", 19 BAT (power) "Single-Cell Li-Ion Battery Pin. Depending on available VBUS power, a Li-Ion battery on BAT will either deliver power to VOUT through the ideal diode or be charged from VOUT via the battery charger.", 20 VOUT (power) "Output Voltage of the Switching PowerPath Controller and Input Voltage of the Battery Charger. The majority of the portable product should be powered from VOUT. The LTC3566 family will partition the available power between (See Datasheet)", 21 VBUS (power) "Primary Input Power Pin. This pin delivers power to VOUT via the SW pin by drawing controlled current from a DC source such as a USB port or wall adapter.", 22 SW (power) "Power Transmission Pin for the USB PowerPath. The SW pin delivers power from VBUS to VOUT via the step-down switching regulator. A 3.3uH inductor should be connected from SW to VOUT.", 23 ~{CHRGEN} (in) "Logic Input. This logic input pin independently enables the battery charger. Active low. Has a 1.6uA internal pull-down current source.", 24 EN1 (in) "Logic Input. This logic input pin independently enables the buck-boost switching regulator. Active high. Has a 1.6uA internal pull-down current source.", 25 EP (power) "Ground. Buck-boost logic and USB Power Manager ground connections. The Exposed Pad should be connected to a continuous ground plane on the printed circuit board directly under the LTC3566."